# EAGLE library part TEXAS_INSTRUMENTS-LEVEL_SHIFTER-TXS0102DCUR (library Module_Gates)
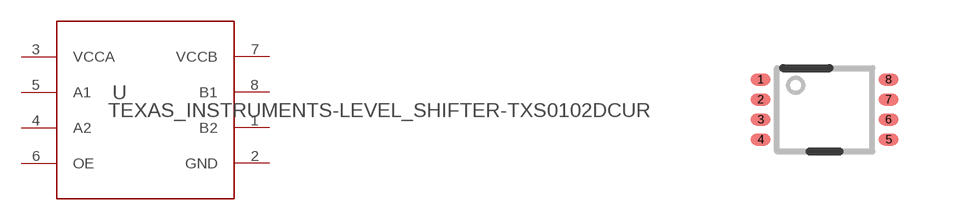
[diagram p0: symbol with the pads of TEXAS_INSTRUMENTS-LEVEL_SHIFTER-TXS0102DCUR; footprint TEXAS_INSTRUMENTS-LEVEL_SHIFTER-TXS0102DCUR]

Designator prefix U

## TEXAS_INSTRUMENTS-LEVEL_SHIFTER-TXS0102DCUR (MANUFACTURER: Texas Instruments; PARTNUMBER: TXS0102DCUR; REFDES: RefDes; TYPE: TYPE; VALUE: Value)  [TEXAS_INSTRUMENTS-LEVEL_SHIFTER-TXS0102DCUR]
1  B2
2  GND  pwr
3  VCCA  pwr
4  A2
5  A1
6  OE  in
7  VCCB  pwr
8  B1

## Footprint TEXAS_INSTRUMENTS-LEVEL_SHIFTER-TXS0102DCUR (pad centres in mm)
smd 0.5 x 0.3: 1 -1.6,0.75; 2 -1.6,0.25; 3 -1.6,-0.25; 4 -1.6,-0.75; 5 1.6,-0.75; 6 1.6,-0.25; 7 1.6,0.25; 8 1.6,0.75